# EAGLE library part STM32F103CXT6 (library svBGC)
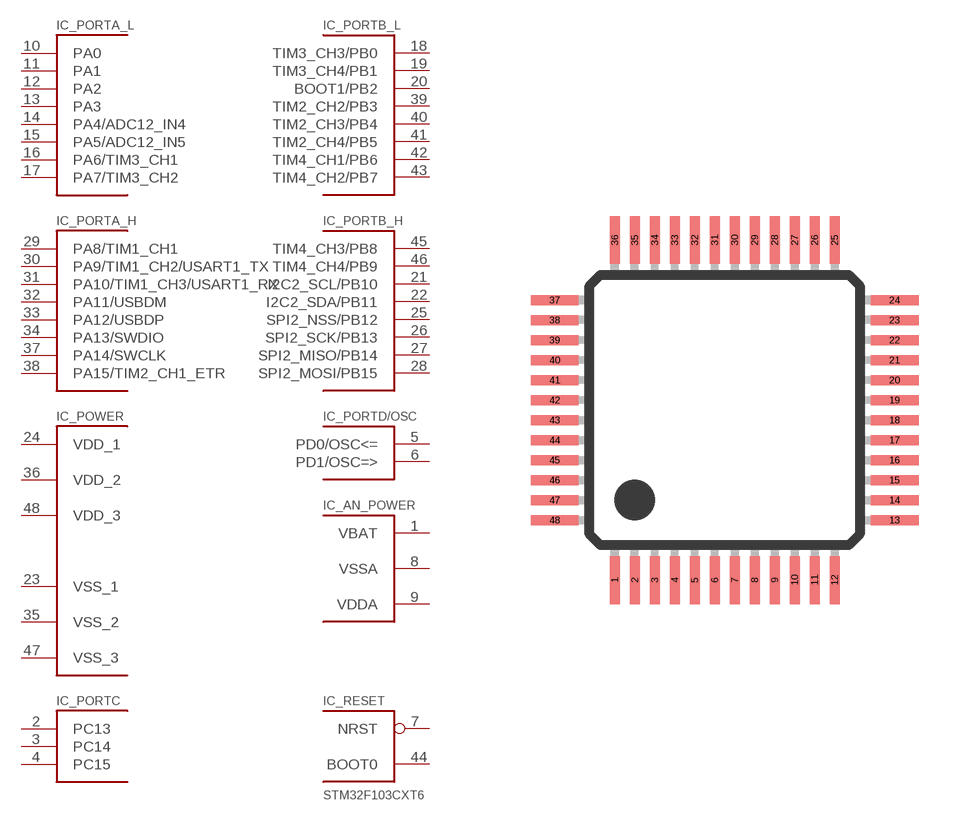
[diagram p14: symbol with the pads of LQFP48; footprint LQFP48]

Designator prefix IC; gates _PORTA_L=PORT_A_L2 _PORTA_H=PORT_A_H2 _PORTB_L=PORT_B_L2 _PORTB_H=PORT_B_H _POWER=VCC_VDD_S _PORTC=PORT_C_3 _PORTD/OSC=PORT_D_2 _AN_POWER=BAT_AN_M _RESET=BOOT_RST

## STM32F103CXT6  [LQFP48]
1  _AN_POWER:VBAT  pwr
2  _PORTC:PC13
3  _PORTC:PC14
4  _PORTC:PC15
5  _PORTD/OSC:PD0/OSC<=
6  _PORTD/OSC:PD1/OSC=>
7  _RESET:NRST  in
8  _AN_POWER:VSSA  pwr
9  _AN_POWER:VDDA  pwr
10  _PORTA_L:PA0
11  _PORTA_L:PA1
12  _PORTA_L:PA2
13  _PORTA_L:PA3
14  _PORTA_L:PA4/ADC12_IN4
15  _PORTA_L:PA5/ADC12_IN5
16  _PORTA_L:PA6/TIM3_CH1
17  _PORTA_L:PA7/TIM3_CH2
18  _PORTB_L:TIM3_CH3/PB0
19  _PORTB_L:TIM3_CH4/PB1
20  _PORTB_L:BOOT1/PB2
21  _PORTB_H:I2C2_SCL/PB10
22  _PORTB_H:I2C2_SDA/PB11
23  _POWER:VSS_1  pwr
24  _POWER:VDD_1  pwr
25  _PORTB_H:SPI2_NSS/PB12
26  _PORTB_H:SPI2_SCK/PB13
27  _PORTB_H:SPI2_MISO/PB14
28  _PORTB_H:SPI2_MOSI/PB15
29  _PORTA_H:PA8/TIM1_CH1
30  _PORTA_H:PA9/TIM1_CH2/USART1_TX
31  _PORTA_H:PA10/TIM1_CH3/USART1_RX
32  _PORTA_H:PA11/USBDM
33  _PORTA_H:PA12/USBDP
34  _PORTA_H:PA13/SWDIO
35  _POWER:VSS_2  pwr
36  _POWER:VDD_2  pwr
37  _PORTA_H:PA14/SWCLK
38  _PORTA_H:PA15/TIM2_CH1_ETR
39  _PORTB_L:TIM2_CH2/PB3
40  _PORTB_L:TIM2_CH3/PB4
41  _PORTB_L:TIM2_CH4/PB5
42  _PORTB_L:TIM4_CH1/PB6
43  _PORTB_L:TIM4_CH2/PB7
44  _RESET:BOOT0  in
45  _PORTB_H:TIM4_CH3/PB8
46  _PORTB_H:TIM4_CH4/PB9
47  _POWER:VSS_3  pwr
48  _POWER:VDD_3  pwr

## Footprint LQFP48 (pad centres in mm)
LQFP48 Package
smd 0.25 x 1.2: 1 -2.75,-4.25; 2 -2.25,-4.25; 3 -1.75,-4.25; 4 -1.25,-4.25; 5 -0.75,-4.25; 6 -0.25,-4.25; 7 0.25,-4.25; 8 0.75,-4.25; 9 1.25,-4.25; 10 1.75,-4.25; 11 2.25,-4.25; 12 2.75,-4.25; 25 2.75,4.25; 26 2.25,4.25; 27 1.75,4.25; 28 1.25,4.25; 29 0.75,4.25; 30 0.25,4.25; 31 -0.25,4.25; 32 -0.75,4.25; 33 -1.25,4.25; 34 -1.75,4.25; 35 -2.25,4.25; 36 -2.75,4.25
smd 1.2 x 0.25: 13 4.25,-2.75; 14 4.25,-2.25; 15 4.25,-1.75; 16 4.25,-1.25; 17 4.25,-0.75; 18 4.25,-0.25; 19 4.25,0.25; 20 4.25,0.75; 21 4.25,1.25; 22 4.25,1.75; 23 4.25,2.25; 24 4.25,2.75; 37 -4.25,2.75; 38 -4.25,2.25; 39 -4.25,1.75; 40 -4.25,1.25; 41 -4.25,0.75; 42 -4.25,0.25; 43 -4.25,-0.25; 44 -4.25,-0.75; 45 -4.25,-1.25; 46 -4.25,-1.75; 47 -4.25,-2.25; 48 -4.25,-2.75